# Altium footprint library GRIx4.PcbLib: 22 footprints (part 1 of 2)
Each footprint in its own frame and in the unit in brackets; x right, y up, seen from the top. Pads: shape width x height; smd on the part's side, far side on the other; paste and mask are expansions set on the pad; w line width, h text height; cw(c..) or ccw(c..) is an arc to the next point about the centre after c.
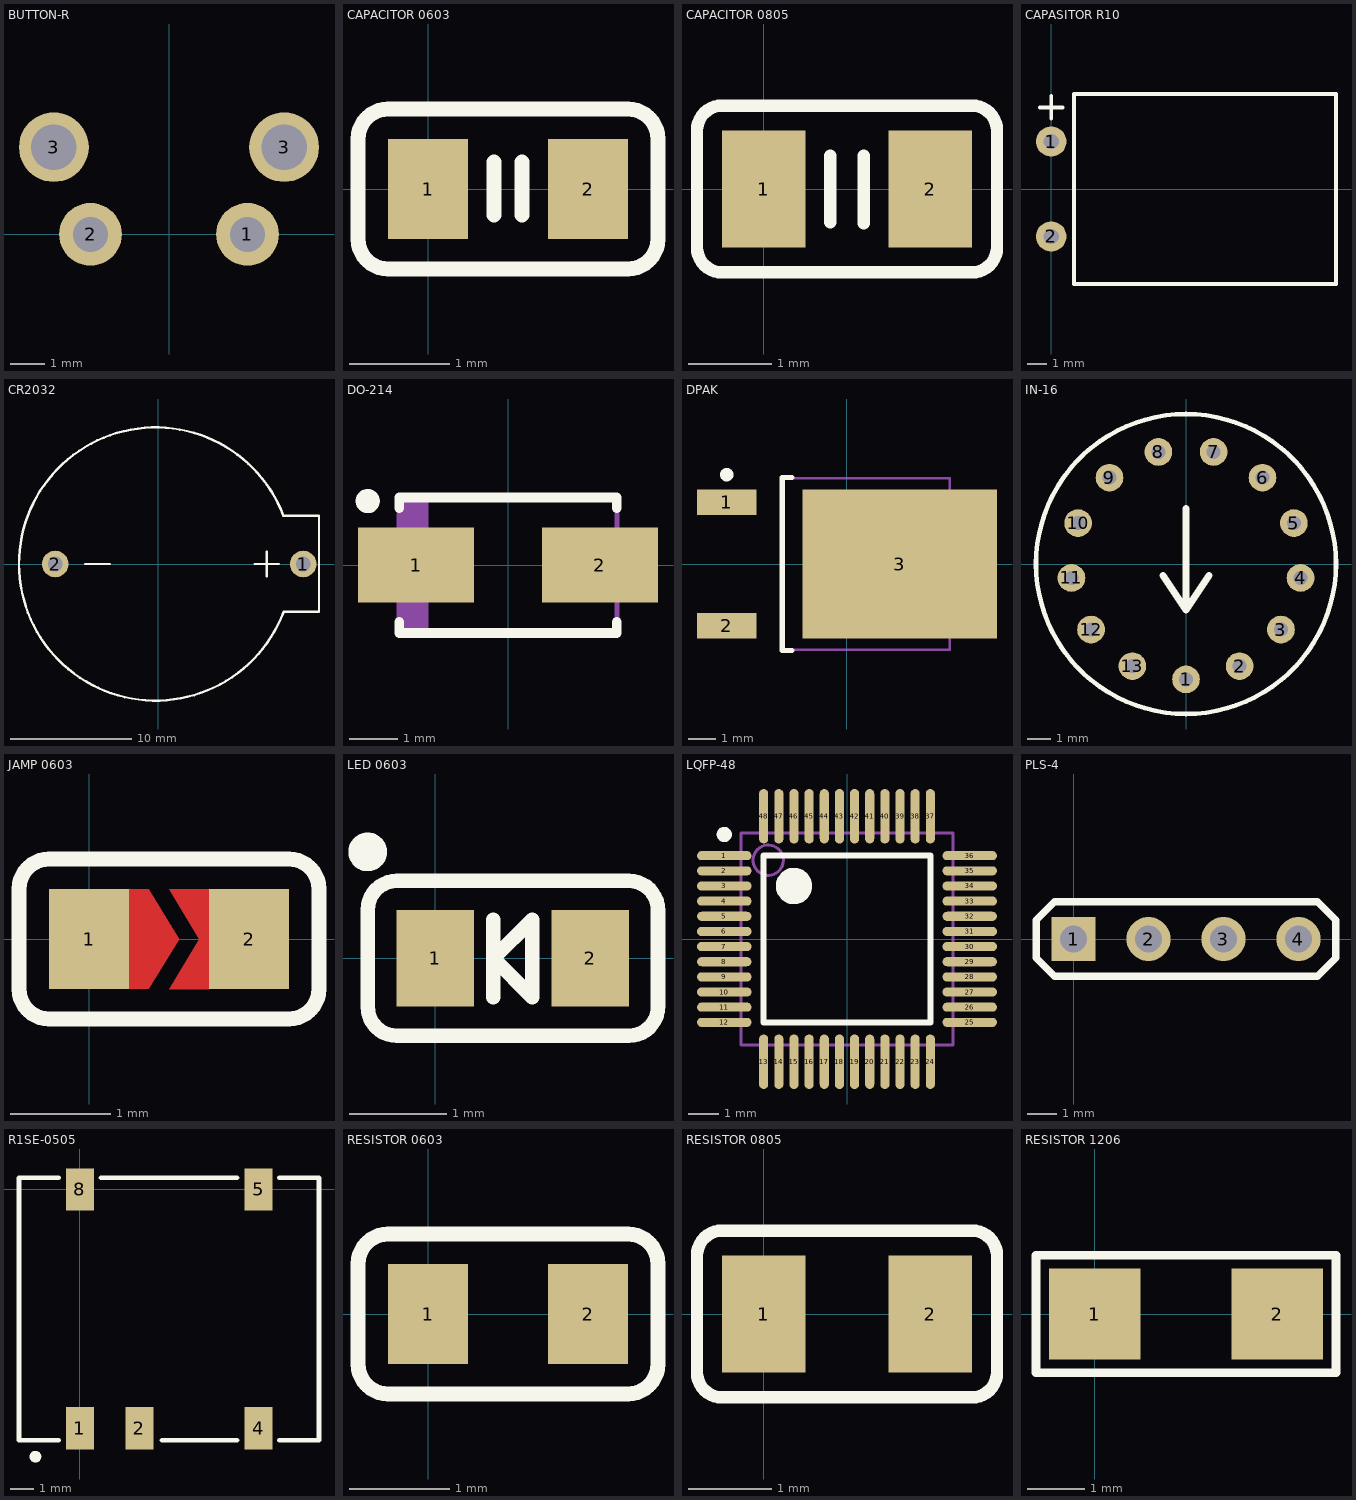
[diagram p0: the footprints below, top view; thin cyan lines are the x and y axes]

## BUTTON-R [mm]
pads (4):
  round 1.8 hole 1: 1(2.25,0) 2(-2.25,0)
  round 2 hole 1.3: 3(-3.3,2.5) 3(3.3,2.5)
3D body: height 7.05, standoff -2.98, extent -4.033,-8.3 4.033,4

## CAPACITOR 0603 [mm]
pads (2):
  rect 0.8x1 smd: 1(0,0) 2(1.6,0)
Top Overlay:
  lines w0.15: 0.66,-0.26 0.66,0.27 ; 0.94,-0.26 0.94,0.27 ; -0.7,-0.5 ccw(c-0.4,-0.5) -0.4,-0.8 2,-0.8 ccw(c2,-0.5) 2.3,-0.5 2.3,0.5 ccw(c2,0.5) 2,0.8 -0.4,0.8 ccw(c-0.4,0.5) -0.7,0.5 -0.7,-0.5
3D body: height 0.8, standoff 0, extent 0.02,-0.37 1.62,0.41
3D body: height 0.81, standoff 0, extent -0.01,-0.38 0.32,0.42
3D body: height 0.81, standoff 0, extent 1.32,-0.38 1.64,0.42

## CAPACITOR 0805 [mm]
pads (2):
  rect 1x1.4 smd: 1(0,0) 2(2,0)
Top Overlay:
  lines w0.15: 0.8,-0.4 0.8,0.4 ; 1.2,-0.41 1.2,0.4 ; -0.8,-0.7 ccw(c-0.5,-0.7) -0.5,-1 2.5,-1 ccw(c2.5,-0.7) 2.8,-0.7 2.8,0.7 ccw(c2.5,0.7) 2.5,1 -0.5,1 ccw(c-0.5,0.7) -0.8,0.7 -0.8,-0.7
3D body: height 1.26, standoff 0, extent 1.7,-0.6 2.01,0.6
3D body: height 1.26, standoff 0, extent 0.01,-0.605 0.36,0.595
3D body: height 1.25, standoff 0, extent 0.33,-0.58 1.72,0.58

## CAPASITOR R10 [mm]
pads (2):
  round 1.6 hole 0.8: 1(0,2.5) 2(0,-2.5)
Top Overlay:
  lines w0.2: -0.6,4.3 0.6,4.3 ; 0,3.7 0,4.9 ; 1.2,-5 1.2,5 15,5 15,-5 1.2,-5
3D body: height 5.3, standoff 4.7, extent -0.3,2.2 1.1,2.8
3D body: height 5, standoff -1.5, extent -0.297,2.201 0.3,2.8
3D body: height 5, standoff -1.5, extent -0.297,-2.799 0.3,-2.2
3D body: height 5.3, standoff 4.7, extent -0.3,-2.8 1.1,-2.2
3D body: height 10, standoff 0, extent 1,-4.998 15,4.998

## CR2032 [mm]
pads (2):
  round 2.2 hole 1.2: 1(12,0) 2(-8.5,0)
Top Overlay:
  lines w0.2: -6,0.002 -4,0.002 ; 8,0 10,0 ; 9,-1 9,1 ; 10.373,-3.952 13.305,-3.952 13.305,0.002 13.305,4.002 ; 10.381,-3.944 cw(c-0.2,0) 10.36,4 13.3,4
3D body: height 8, standoff -2.95, extent -11.3,-11.3 12.2,11.3

## DO-214 [mm]
pads (2):
  rect 2.4x1.55 smd: 1(-1.9,0) 2(1.9,0)
Top Overlay:
  circle w0.25: c-2.9,1.325 r0.125
  lines w0.2: -2.25,-1.175 -2.25,-1.4 2.25,-1.4 2.25,-1.175 ; -2.25,1.175 -2.25,1.4 2.25,1.4 2.25,1.175
Mechanical 13:
  rectangle: -2.25,-1.395 -1.645,1.395
  lines w0.1: -2.25,-1.395 2.25,-1.395 2.25,1.395 -2.25,1.395 -2.25,-1.395
3D body: height 2, standoff 0, extent -2.25,-1.395 2.25,1.395

## DPAK [mm]
pads (3):
  rect 2.2x0.95 smd: 1(-4.45,2.28) 2(-4.45,-2.28)
  rect 7.2x5.5 smd: 3(1.95,0)
Top Overlay:
  circle w0.25: c-4.45,3.305 r0.125
  lines w0.2: -2.05,-3.2 -2.4,-3.2 -2.4,3.2 -2.05,3.2
Mechanical 13:
  lines w0.1: -2.4,-3.175 -2.4,3.175 3.8,3.175 3.8,-3.175 -2.4,-3.175
3D body: height 2.38, standoff 0.01, extent -2.4,-3.175 3.8,3.175

## IN-16 [mm]
pads (13):
  round 1.2 hole 0.6: 1(0,-5) 2(2.324,-4.427) 3(4.115,-2.84) 4(4.964,-0.603) 5(4.675,1.773) 6(3.316,3.743) 7(1.197,4.855) 8(-1.197,4.855) 9(-3.316,3.743) 10(-4.675,1.773) 11(-4.964,-0.603) 12(-4.115,-2.84) 13(-2.324,-4.427)
Top Overlay:
  circle w0.2: c0,0 r6.5
  lines w0.3: -1,-0.5 0,-2 ; 0,2.4 0,-2 ; 1,-0.5 0,-2
3D body: height 46.5, standoff -2, extent -6.5,-6.5 6.5,6.5

## JAMP 0603 [mm]
pads (2):
  rect 0.8x1 smd: 1(0,0) 2(1.6,0)
Top Layer:
  region: 0.8,0.5 1.1,0 0.8,-0.5 1.2,-0.5 1.2,0.5
  region: 0.6,0.5 0.9,0 0.6,-0.5 0.4,-0.5 0.4,0.5
Top Overlay:
  lines w0.15: -0.7,-0.5 ccw(c-0.4,-0.5) -0.4,-0.8 2,-0.8 ccw(c2,-0.5) 2.3,-0.5 2.3,0.5 ccw(c2,0.5) 2,0.8 -0.4,0.8 ccw(c-0.4,0.5) -0.7,0.5 -0.7,-0.5
Top Solder:
  region: 0.5,-0.6 1.1,-0.6 1.1,0.6 0.5,0.6

## LED 0603 [mm]
pads (2):
  rect 0.8x1 smd: 1(0,0) 2(1.6,0)
Top Overlay:
  circle w0.2: c-0.7,1.1 r0.1
  lines w0.15: 0.6,-0.4 0.6,0.4 ; -0.7,-0.5 ccw(c-0.4,-0.5) -0.4,-0.8 2,-0.8 ccw(c2,-0.5) 2.3,-0.5 2.3,0.5 ccw(c2,0.5) 2,0.8 -0.4,0.8 ccw(c-0.4,0.5) -0.7,0.5 -0.7,-0.5 ; 0.6,0 1,-0.4 1,0.4 0.6,0
3D body: height 0.5, standoff 0, extent 0.205,-0.475 1.4,0.475
3D body: height 0.1, standoff 0, extent -0.1,-0.5 1.7,0.5

## LQFP-48 [mm]
pads (48):
  oval 1.8x0.3 smd: 1(-4.05,2.75) 2(-4.05,2.25) 3(-4.05,1.75) 4(-4.05,1.25) 5(-4.05,0.75) 6(-4.05,0.25) 7(-4.05,-0.25) 8(-4.05,-0.75) 9(-4.05,-1.25) 10(-4.05,-1.75) 11(-4.05,-2.25) 12(-4.05,-2.75) 25(4.05,-2.75) 26(4.05,-2.25) 27(4.05,-1.75) 28(4.05,-1.25) 29(4.05,-0.75) 30(4.05,-0.25) 31(4.05,0.25) 32(4.05,0.75) 33(4.05,1.25) 34(4.05,1.75) 35(4.05,2.25) 36(4.05,2.75)
  oval 0.3x1.8 smd: 13(-2.75,-4.05) 14(-2.25,-4.05) 15(-1.75,-4.05) 16(-1.25,-4.05) 17(-0.75,-4.05) 18(-0.25,-4.05) 19(0.25,-4.05) 20(0.75,-4.05) 21(1.25,-4.05) 22(1.75,-4.05) 23(2.25,-4.05) 24(2.75,-4.05) 37(2.75,4.05) 38(2.25,4.05) 39(1.75,4.05) 40(1.25,4.05) 41(0.75,4.05) 42(0.25,4.05) 43(-0.25,4.05) 44(-0.75,4.05) 45(-1.25,4.05) 46(-1.75,4.05) 47(-2.25,4.05) 48(-2.75,4.05)
Top Overlay:
  circle w0.25: c-4.05,3.45 r0.125
  circle w0.6: c-1.75,1.75 r0.3
  lines w0.2: -2.75,-2.75 -2.75,2.75 2.75,2.75 2.75,-2.75 -2.75,-2.75
Mechanical 13:
  circle w0.1: c-2.6,2.6 r0.5
  lines w0.1: -3.5,-3.5 -3.5,3.5 3.5,3.5 3.5,-3.5 -3.5,-3.5
3D body: height 1.6, standoff 0.05, extent -3.5,-3.5 3.5,3.5

## PLS-4 [mm]
pads (4):
  rect 1.5x1.5 hole 0.9: 1(0,0)
  round 1.5 hole 0.9: 2(2.54,0) 3(5.08,0) 4(7.62,0)
Top Overlay:
  lines w0.254: -1.27,-0.635 -0.635,-1.27 8.255,-1.27 8.89,-0.635 8.89,0.635 8.255,1.27 1.905,1.27 0.635,1.27 -0.635,1.27 -1.27,0.635 -1.27,-0.635
3D body: height 8.5, standoff -3, extent 2.24,-0.3 2.84,0.3
3D body: height 8.5, standoff -3, extent -0.3,-0.3 0.3,0.3
3D body: height 2, standoff 0, extent -1.118,-1.118 8.738,1.118
3D body: height 8.5, standoff -3, extent 4.78,-0.3 5.38,0.3
3D body: height 8.5, standoff -3, extent 7.32,-0.3 7.92,0.3

## R1SE-0505 [mm]
pads (5):
  rect 1.2x1.8 smd: 1(0,-10.19) 2(2.54,-10.19) 4(7.62,-10.19) 5(7.62,0) 8(0,0)
Top Overlay:
  circle w0.25: c-1.9,-11.4 r0.125
  lines w0.2: -0.9,-10.7 -2.6,-10.7 -2.6,0.5 -0.9,0.5 ; 0.9,0.5 6.7,0.5 ; 3.5,-10.7 6.7,-10.7 ; 8.5,-10.7 10.2,-10.7 10.2,0.5 8.5,0.5
3D body: height 7, standoff 0.01, extent -2.6,-10.65 10.2,0.45

## RESISTOR 0603 [mm]
pads (2):
  rect 0.8x1 smd: 1(0,0) 2(1.6,0)
Top Overlay:
  lines w0.15: -0.7,-0.5 ccw(c-0.4,-0.5) -0.4,-0.8 2,-0.8 ccw(c2,-0.5) 2.3,-0.5 2.3,0.5 ccw(c2,0.5) 2,0.8 -0.4,0.8 ccw(c-0.4,0.5) -0.7,0.5 -0.7,-0.5
3D body: height 0.31, standoff 0, extent 1.32,-0.38 1.64,0.42
3D body: height 0.31, standoff 0, extent -0.01,-0.38 0.32,0.42
3D body: height 0.3, standoff 0, extent 0.02,-0.37 1.62,0.41

## RESISTOR 0805 [mm]
pads (2):
  rect 1x1.4 smd: 1(0,0) 2(2,0)
Top Overlay:
  lines w0.15: -0.8,-0.7 ccw(c-0.5,-0.7) -0.5,-1 2.5,-1 ccw(c2.5,-0.7) 2.8,-0.7 2.8,0.7 ccw(c2.5,0.7) 2.5,1 -0.5,1 ccw(c-0.5,0.7) -0.8,0.7 -0.8,-0.7
3D body: height 0.5, standoff 0, extent 0.33,-0.58 1.72,0.58
3D body: height 0.52, standoff 0, extent 1.7,-0.6 2.01,0.6
3D body: height 0.52, standoff 0, extent 0.01,-0.605 0.36,0.595

## RESISTOR 1206 [mm]
pads (2):
  rect 1.6x1.6 smd: 1(0,0) 2(3.2,0)
Top Overlay:
  lines w0.15: -1.025,-1.025 4.225,-1.025 4.225,1.025 -1.025,1.025 -1.025,-1.025
3D body: height 0.52, standoff 0, extent 2.88,-0.8 3.22,0.8
3D body: height 0.5, standoff 0, extent 0.31,-0.76 2.91,0.78
3D body: height 0.52, standoff 0, extent 0.01,-0.8 0.35,0.8